# Altium schematic symbol library USBConnectors.SCHLIB: 22 symbols
Pins are listed as number, name and electrical type; pins without a type are passive.

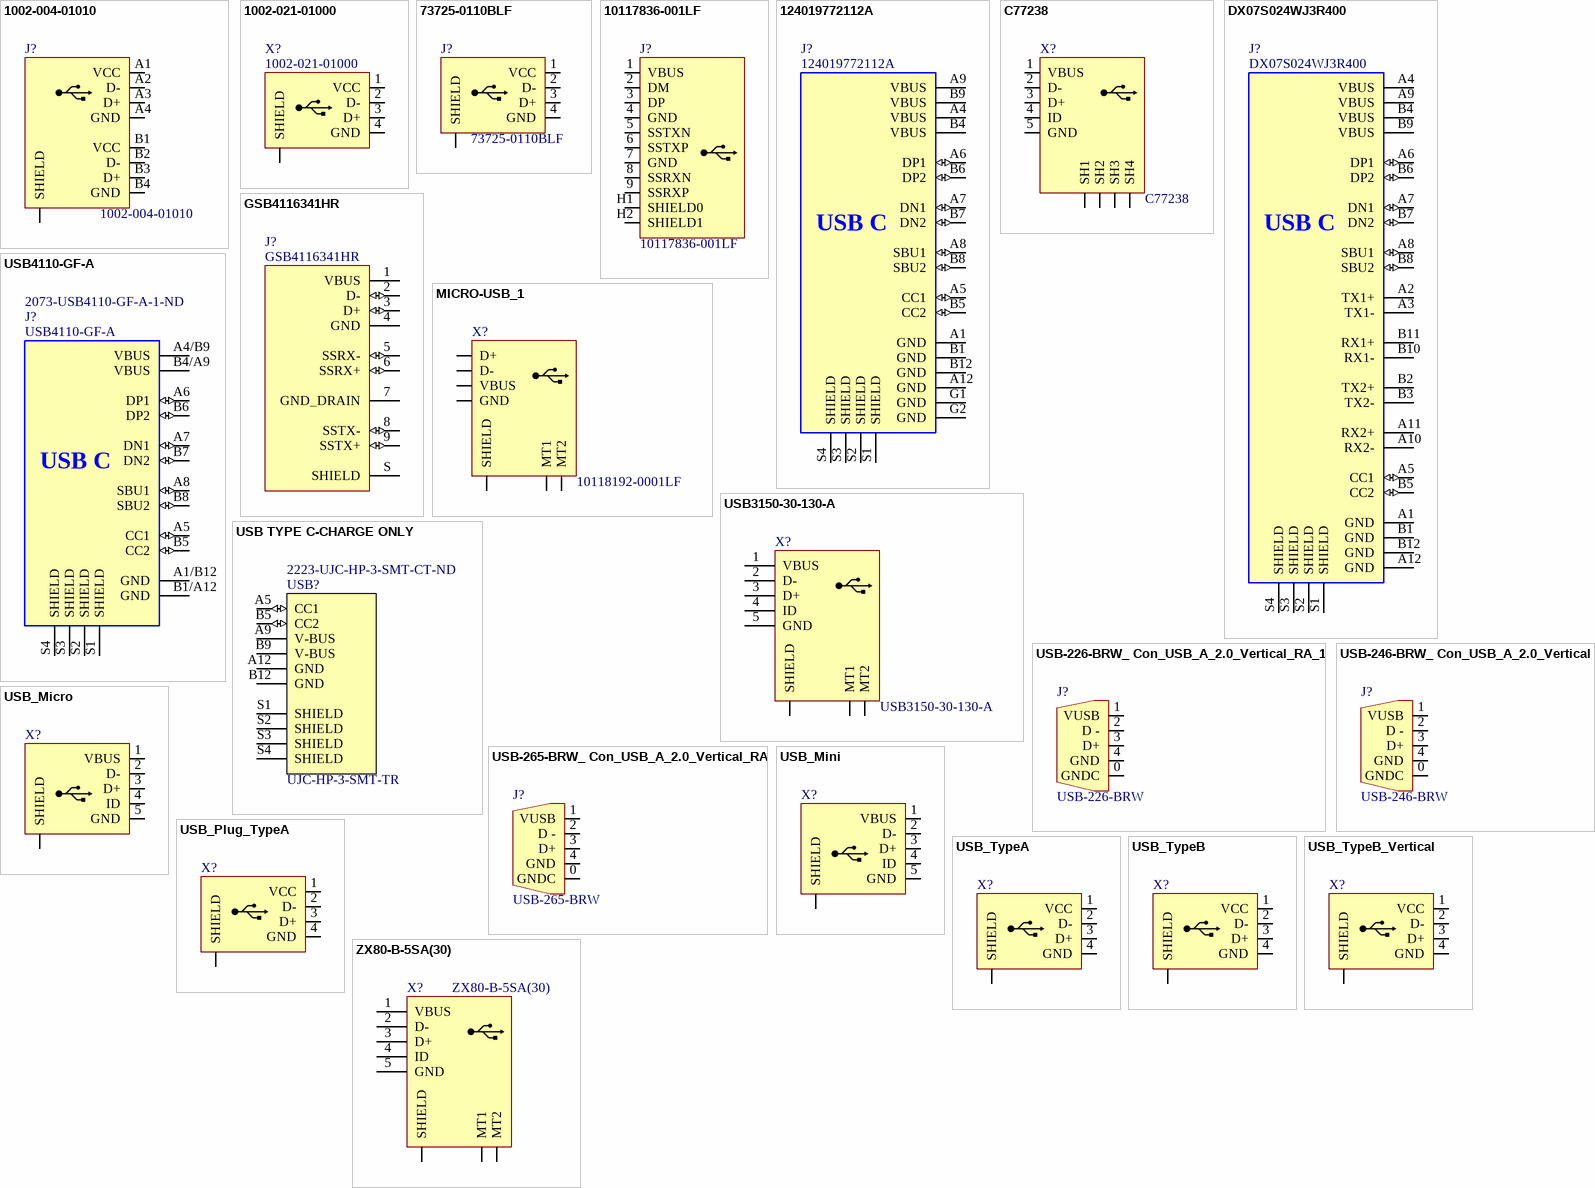
[diagram p0: symbols 1002-004-01010 to ZX80-B-5SA(30)]

## 1002-004-01010
designator J?
CONN USB A TYPE R/A DUAL T/H; Manufacturer: CNC Tech; Connector Type: USB - A, Stacked; Number of Contacts: 8; Gender: Receptacle; Specifications: USB 2.0; Number of Ports: 2; Current Rating: 1.5A; Voltage - Rated: 30V; Mating Cycles: 1500; Material Flammability Rating: UL94 V-0; Supplier 1: Digi-Key; Manufacturer Part Number: 1002-004-01010; RoHS: RoHS Compliant; Category: Connectors, Interconnects; Stock 1: 43520; Pricing 1: 1=1.1, 10=0.969, 25=0.912, 50=0.874, 100=0.836, 250=0.76, 500=0.684, 1000=0.608, 2500=0.551 (USD); Packaging: Tray; Part Status: Active; Mounting Type: Through Hole, Right Angle; Mounting Feature: Horizontal; Termination: Solder; Features: Board Lock; Ingress Protection: -; Operating Temperature: -55°C ~ 85°C; Shielding: -; Contact Finish: Gold; Shell/Shielding Material: Brass, Steel; Insulation Color: -; ComponentLink1URL: http://cnctech.us/pdfs/1002-004-01010.pdf; ComponentLink1Description: http://cnctech.us/pdfs/1002-004-01010.pdf; Value: 1002-004-01010; Supplier Part Number 1: 1175-1018-ND
footprint 1002-004-01010
pins: A1 VCC, A2 D-, A3 D+, A4 GND, B1 VCC, B2 D-, B3 D+, B4 GND, SHIELD

## 1002-021-01000
designator X?
USB 2.0 A/FEMALE DIP 180 DEG; Manufacturer: CNC Tech; Connector Type: USB - A; Number of Contacts: 4; Gender: Receptacle; Specifications: USB 2.0; Number of Ports: 1; Current Rating: 1.5A; Voltage - Rated: 30V; Mating Cycles: 1500; Material Flammability Rating: UL94 V-0; Supplier 1: Digi-Key; Manufacturer Part Number: 1002-021-01000; RoHS: RoHS Compliant; Category: Connectors, Interconnects; Stock 1: 16254; Pricing 1: 1=0.84, 10=0.74, 25=0.696, 50=0.667, 100=0.638, 250=0.58, 500=0.522, 1000=0.464, 2500=0.4205 (USD); Packaging: Tray; Part Status: Active; Mounting Type: Through Hole; Mounting Feature: Vertical; Termination: Solder; Features: Board Lock; Ingress Protection: -; Operating Temperature: -55°C ~ 85°C; Shielding: -; Contact Finish: -; Shell/Shielding Material: Brass; Insulation Color: Black; ComponentLink1URL: http://www.cnctech.us/pdfs/1002-021-01000.pdf; ComponentLink1Description: http://www.cnctech.us/pdfs/1002-021-01000.pdf; Value: 1002-021-01000; Supplier Part Number 1: 1175-1265-ND
footprint USB_TypeA-Vertical
pins: 1 VCC, 2 D-, 3 D+, 4 GND, SHIELD

## 73725-0110BLF
designator J?
CONN RCPT USB TYPE A FLAG PCB; Manufacturer: Amphenol FCI; Connector Type: USB - A; Number of Contacts: 4; Gender: Receptacle; Specifications: USB 2.0; Number of Ports: 1; Current Rating: 2.5A; Mating Cycles: 1500; Shielding: Shielded; Material Flammability Rating: UL94 V-0; Supplier 1: Digi-Key; Manufacturer Part Number: 73725-0110BLF; RoHS: RoHS Compliant; Category: Connectors, Interconnects; Stock 1: 32534; Pricing 1: 1=0.84, 10=0.742, 25=0.6984, 50=0.6694, 100=0.6402, 250=0.582, 500=0.5238, 1000=0.4656, 2500=0.42195 (USD); Packaging: Tube; Part Status: Active; Mounting Type: Through Hole, Right Angle; Mounting Feature: Vertical; Termination: Solder; Features: Board Lock, Sensor Contact; Ingress Protection: -; Operating Temperature: -55°C ~ 85°C; Voltage - Rated: -; Contact Finish: Gold, GXT™; Shell/Shielding Material: Copper Alloy; Insulation Color: White; ComponentLink1URL: http://portal.fciconnect.com/Comergent//fci/drawing/73725.pdf; ComponentLink1Description: http://portal.fciconnect.com/Comergent//fci/drawing/73725.pdf; Value: 73725-0110BLF; Supplier Part Number 1: 609-1041-ND
footprint 73725-0110BLF
pins: 1 VCC, 2 D-, 3 D+, 4 GND, SHIELD

## 10117836-001LF
designator J?
USB 3.0 Receptacle , FCI, SMT, Type A, Right Angle; Source1Partnumber: 609-4663-ND; Populated: Yes; Source1: Digikey; Source1Price: 1.15; Source1Qty: 1; ComponentLink1Description: Manufacturer Web; ComponentLink2Description: Datasheet Web; ComponentLink3Description: Digikey Web; LatestRevisionDate: 21-Dec-2015; PackageReference: TH; ROHS: Yes; Value: 10117836-001LF; Manuf1: FCI; Manuf1Partnumber: 10117836-001LF
footprint USB_3_0_A - Vertical
pins: 1 VBUS, 2 DM, 3 DP, 4 GND, 5 SSTXN, 6 SSTXP, 7 GND, 8 SSRXN, 9 SSRXP, H1 SHIELD0, H2 SHIELD1

## 124019772112A
designator J?
USB2.0, Type C, Top mount, CH 1.50mm, Dual Row SMT, IPX8 / Tap/Rl; Manufacturer: Amphenol; Supplier: Digikey; Supplier Part Number: 664-124019772112ACT-ND; Manufacturer Part Number: 124019772112A; RoHS: No; Category: Connectors; Stock: 7974; Pricing: 1=1,9, 10=1,549, 25=1,4276, 50=1,3424, 100=1,2623, 250=1,1638 (USD)
footprint AMPHENOL_124019772112A
pins: A1 GND (power), A4 VBUS (power), A5 CC1 (io), A6 DP1 (io), A7 DN1 (io), A8 SBU1 (io), A9 VBUS (power), A12 GND (power), B1 GND (power), B4 VBUS (power), B5 CC2 (io), B6 DP2 (io), B7 DN2 (io), B8 SBU2 (io), B9 VBUS (power), B12 GND (power), G1 GND (power), G2 GND (power), S1 SHIELD (power), S2 SHIELD (power), S3 SHIELD (power), S4 SHIELD (power)
text: USB C

## C77238
designator X?
USB - MICRO B FEMALE USB 2 5 SMD ROHS; Manuf1: Jing Extension of the Electronic Co.; Populated: Yes; Value: C77238; ROHS: Yes; Manuf1Partnumber: C77238; Supplier 1: LCSC; Supplier Part Number 1: C77238; ClassName: *; Code_JEDEC: *; HelpURL: *
footprint MICRO-USB_MICRO-USB-17
pins: 1 VBUS, 2 D-, 3 D+, 4 ID, 5 GND, SH1, SH2, SH3, SH4

## DX07S024WJ3R400
designator J?
USB Connector, 24 Contact(s), Female, Straight, Surface Mount Terminal, Locking, Receptacle; Manufacturer: JAE Electronics; Contact Resistance: 40mΩ; Current Rating: 5A; Dielectric Material: Polyethylene; Insulation Resistance: 100MΩ; Number of Ports: 1; Row Spacing: 3.5mm; Supplier: DigiKey; Supplier Part Number: 670-2950-1-ND; Manufacturer Part Number: DX07S024WJ3R400; RoHS: Compliant; Category: Card Edge Connectors; Stock: 15409; Pricing: 1=2,26, 10=1,917, 25=1,7964, 50=1,7106, 100=1,6289 (USD); Contact Gender: Female; Lifecycle Status: Production; Max Operating Temperature: 85°C; Min Operating Temperature: -30°C; Pins: 24; Number of Rows: 2; REACH SVHC: Yes; Shell Finish: Nickel; Shell Material: Stainless Steel; Terminal Pitch: 500µm; ComponentLink1URL: https://datasheet.octopart.com:443/DX07S024WJ3R400-JAE-Electronics-datasheet-180494801.pdf?src-supplier=IHS; ComponentLink1Description: https://datasheet.octopart.com:443/DX07S024WJ3R400-JAE-Electronics-datasheet-180494801.pdf?src-supplier=IHS; ComponentLink2URL: https://datasheet.octopart.com:443/DX07S024WJ3R400-JAE-Electronics-datasheet-188511448.pdf?src-supplier=Electro+Sonic; ComponentLink2Description: https://datasheet.octopart.com:443/DX07S024WJ3R400-JAE-Electronics-datasheet-188511448.pdf?src-supplier=Electro+Sonic
footprint JAE_DX07S024WJ3R400
pins: A1 GND (power), A2 TX1+, A3 TX1-, A4 VBUS (power), A5 CC1 (io), A6 DP1 (io), A7 DN1 (io), A8 SBU1 (io), A9 VBUS (power), A10 RX2-, A11 RX2+, A12 GND (power), B1 GND (power), B2 TX2+, B3 TX2-, B4 VBUS (power), B5 CC2 (io), B6 DP2 (io), B7 DN2 (io), B8 SBU2 (io), B9 VBUS (power), B10 RX1-, B11 RX1+, B12 GND (power), S1 SHIELD (power), S2 SHIELD (power), S3 SHIELD (power), S4 SHIELD (power)
text: USB C

## GSB4116341HR
designator J?
USB Connector, 9 Contact(s), Female, Right Angle, Solder Terminal, Locking, Receptacle; Manufacturer: Amphenol Communications Solutions; Contact Resistance: 50mΩ; Current Rating: 1.8A; Dielectric Material: Polyethylene; Insulation Resistance: 100MΩ; Number of Contacts: 9; Number of Ports: 1; Plating Thickness: 762mm; Row Spacing: 2.4mm; Supplier: DigiKey; Supplier Part Number: GSB4116341HR-ND; Manufacturer Part Number: GSB4116341HR; RoHS: Compliant; Category: Connectors; Stock: 5157; Pricing: 1=1,8, 10=1,528, 25=1,4324, 50=1,3638, 100=1,2987, 250=1,21732, 500=1,15918, 1900=1,055, 3800=1,00468 (USD); Connector Type: USB; Contact Gender: Female; Gender: Receptacle; Lifecycle Status: Production; Max Operating Temperature: 85°C; Min Operating Temperature: -40°C; Mounting Technology: Through Hole, Vertical; Pins: 9; Number of Rows: 2; Orientation: Right Angle; REACH SVHC: Yes; Schedule B: 8536695050, 8536695050|8536695050|8536695050|8536695050|8536695050; Shell Finish: Nickel; Shell Material: Stainless Steel; Terminal Pitch: 2mm; ComponentLink1URL: https://datasheet.octopart.com:443/GSB4116341HR-Amphenol-Communications-Solutions-datasheet-182249118.pdf?src-supplier=IHS; ComponentLink1Description: https://datasheet.octopart.com:443/GSB4116341HR-Amphenol-Communications-Solutions-datasheet-182249118.pdf?src-supplier=IHS; ComponentLink2URL: https://datasheet.octopart.com:443/GSB4116341HR-Amphenol-Communications-Solutions-datasheet-154833497.pdf?src-supplier=Master+Electronics; ComponentLink2Description: https://datasheet.octopart.com:443/GSB4116341HR-Amphenol-Communications-Solutions-datasheet-154833497.pdf?src-supplier=Master+Electronics
footprint AMPHENOL_GSB4116341HR
pins: 1 VBUS (power), 2 D- (io), 3 D+ (io), 4 GND (power), 5 SSRX- (io), 6 SSRX+ (io), 7 GND_DRAIN (power), 8 SSTX- (io), 9 SSTX+ (io), S SHIELD

## MICRO-USB_1
designator X?, comment 10118192-0001LF
USB - micro B USB 2.0 Receptáculo Conector 5pos; Populated: Yes; Value: 10118192-0001LF; ROHS: Yes; Manuf1: *; Manuf1Partnumber: 10118192-0001LF; Supplier 1: Digi-Key; Supplier 2: Mouser; Supplier Part Number 1: 609-4613-6-ND; Supplier Part Number 2: 649-10118192-0001LF; ClassName: *; Code_JEDEC: *; HelpURL: *
footprint USB-MICROB
footprint USB-MICROB - NO3D
pins: D+, D-, GND, MT1, MT2, SHIELD, VBUS

## USB3150-30-130-A
designator X?
USB Connector, Micro USB Type B, USB 2.0, Plug, 5 Positions, Through Hole Mount, Vertical; Manuf1: GLOBAL CONNECTOR TECHNOLOGY; Populated: Yes; Value: USB3150-30-130-A; ROHS: Yes; Manuf1Partnumber: USB3150-30-130-A; Supplier 1: Digi-Key; Supplier 2: Mouser; Supplier Part Number 1: 609-4613-6-ND; Supplier Part Number 2: 649-10118192-0001LF; ClassName: *; Code_JEDEC: *; HelpURL: *
footprint USB3150
pins: 1 VBUS, 2 D-, 3 D+, 4 ID, 5 GND, MT1, MT2, S SHIELD

## USB4110-GF-A
designator J?  Supplier Part Number 1: 2073-USB4110-GF-A-1-ND
Conn USB Type C RCP 16 POS 0.3mm/0.5mm Solder ST SMD 16 Terminal 1 Port T/R; Manufacturer: Global Connector Technology; Supplier 1: Digi-Key; Manufacturer Part Number: USB4110-GF-A; RoHS: No; Category: USB Connectors; Stock 1: 28472; Pricing 1: 1=1,350000, 10=1,143000, 25=1,096400, 50=1,073200, 100=1,026600, 250=0,933240, 500=0,839920 (USD); ComponentLink1URL: https://gct.co/files/drawings/usb4110.pdf?src-supplier=Digi-Key; ComponentLink1Description: https://gct.co/files/drawings/usb4110.pdf?src-supplier=Digi-Key
footprint GCT_USB4110-GF-A
pins: A1/B12 GND (power), A4/B9 VBUS (power), A5 CC1 (io), A6 DP1 (io), A7 DN1 (io), A8 SBU1 (io), B1/A12 GND (power), B4/A9 VBUS (power), B5 CC2 (io), B6 DP2 (io), B7 DN2 (io), B8 SBU2 (io), S1 SHIELD (power), S2 SHIELD (power), S3 SHIELD (power), S4 SHIELD (power)
text: USB C

## USB TYPE C-CHARGE ONLY
designator USB?, comment UJC-HP-3-SMT-TR  Supplier Part Number 1: 2223-UJC-HP-3-SMT-CT-ND
Power-Only USB Type C Connector, Surface Mount, Right Angle, 20 Vdc, 3 A, 60 W, 6 Pins; Manufacturer: CUI Devices; Supplier 1: Digi-Key; Manufacturer Part Number: UJC-HP-3-SMT-TR; RoHS: Yes; Category: USB Connectors; Stock 1: 32496; Pricing 1: 1=0,99000, 10=0,83600, 25=0,80200, 50=0,78480, 100=0,75080, 250=0,68248, 500=0,61424 (USD)
footprint CUI_UJC-HP-3-SMT-TR
pins: A5 CC1 (io), A9 V-BUS (power), A12 GND (power), B5 CC2 (io), B9 V-BUS (power), B12 GND (power), S1 SHIELD, S2 SHIELD, S3 SHIELD, S4 SHIELD

## USB-226-BRW_ Con_USB_A_2.0_Vertical_RA_1
designator J?, comment USB-226-BRW
CONN RCPT USB 2.0 Type-A 4POS TH R/A; Manufacturer: XUNPU; Manufacturer Part Number: USB-226-BRW; ComponentLink1Description: LCSC; ComponentLink1URL: https://www.lcsc.com/product-detail/C720524.html?spm=wm.fly.bg.1.xh___wm.sxq.ssx.dcs.1&lcsc_vid=QlhdUlBWRlMKVAdeEgBXVlRfEVUMAgACFlVfBFFfFAcxVlNeQVZaVFFQR1leVjsOAxUeFF5JWBYZEEoKFBINSQcJGk4eFQsCAgIaSgADAwAHC0slQlBaVVFUQk8GEwkK; Supplier 1: LCSC; Supplier Part Number 1: C720524
footprint USB-226-BRW_ Con_USB_A_2.0_Vertical_RA_1
pins: 0 GNDC, 1 VUSB, 2 D -, 3 D+, 4 GND

## USB-246-BRW_ Con_USB_A_2.0_Vertical
designator J?, comment USB-246-BRW
1.5A USB 2.0 1 Through Hole 4P Female -20℃~+70℃ Type-A Through Hole USB Connectors ROHS; Manufacturer: XUNPU; Manufacturer Part Number: USB-246-BRW; ComponentLink1Description: LCSC; ComponentLink1URL: https://lcsc.com/product-detail/USB-Connectors_XUNPU-USB-246-BRW_C720532.html?s_z=n_xunpu; Supplier 1: LCSC; Supplier Part Number 1: C720532
footprint CON_USB_A_4_VERTICAL_10MM
pins: 0 GNDC, 1 VUSB, 2 D -, 3 D+, 4 GND

## USB-265-BRW_ Con_USB_A_2.0_Vertical_RA
designator J?, comment USB-265-BRW
CONN RCPT USB 2.0 Type-A 4POS TH R/A; Manufacturer: XUNPU; Manufacturer Part Number: USB-265-BRW; ComponentLink1Description: LCSC; ComponentLink1URL: https://www.lcsc.com/product-detail/C720546.html?spm=wm.fly.bg.0.xh___wm.sxq.ssx.dcs.1&lcsc_vid=QlhdUlBWRlMKVAdeEgBXVlRfEVUMAgACFlVfBFFfFAcxVlNeQVZaVFFQR1leVjsOAxUeFF5JWBYZEEoKFBINSQcJGk4eFQsCAgIaSgADAwAHC0slQlBaVVFUQk8GEwkK; Supplier 1: LCSC; Supplier Part Number 1: C720546
footprint USB-265-BRW_ Con_USB_A_2.0_Vertical_RA
pins: 0 GNDC, 1 VUSB, 2 D -, 3 D+, 4 GND

## USB_Micro
designator X?
USB; Populated: Yes; ROHS: Yes
footprint USB_Micro-AB
footprint USB_Micro-B
pins: 1 VBUS, 2 D-, 3 D+, 4 ID, 5 GND, SHIELD

## USB_Mini
designator X?
USB; Populated: Yes; ROHS: Yes
footprint USB_MINI-B
pins: 1 VBUS, 2 D-, 3 D+, 4 ID, 5 GND, SHIELD

## USB_Plug_TypeA
designator X?, comment 1001-011-01101  (value not drawn)
Right Angle Type A USB Connector SMT Plug, 30 V, 1A; Manuf1: CNC Tech; Populated: Yes; Manuf1Partnumber: 1001-011-01101; PackageReference: USB-A; ROHS: Yes; Value: 1001-011-01101; Supplier 1: Digi-Key; Supplier Part Number 1: 1175-1008-ND
footprint USB_Plug_TypeA
footprint USB_Plug_Type-VER
pins: 1 VCC, 2 D-, 3 D+, 4 GND, SHIELD

## USB_TypeA
designator X?, comment UE27AC54100  (value not drawn)
USB - A USB 2.0 Receptacle Connector 4 Position Through Hole, Right Angle, Horizontal; Manuf1: Amphenol; Populated: Yes; Manuf1Partnumber: UE27AC54100; ROHS: Yes; Value: UE27AC54100; Supplier 1: Digi-Key; Supplier 2: Mouser; Supplier 3: Allied; Supplier Part Number 1: UE27AC54100-ND; Supplier Part Number 2: 523-UE27-AC54-100; Supplier Part Number 3: 70323399
footprint USB_TypeA
footprint USB_TYPEA SMD
footprint USB_TypeA-Vertical
pins: 1 VCC, 2 D-, 3 D+, 4 GND, SHIELD

## USB_TypeB
designator X?, comment USB-B1HSW6  (value not drawn)
USB - B Receptacle Connector 4 Position Through Hole, Right Angle, Horizontal; Populated: Yes; Manuf1Partnumber: USB-B1HSW6; PackageReference: USB-B; ROHS: Yes; Value: USB-B1HSW6; Supplier 1: Digi-Key; Supplier Part Number 1: ED2982-ND
footprint USB_TypeB
pins: 1 VCC, 2 D-, 3 D+, 4 GND, SHIELD

## USB_TypeB_Vertical
designator X?, comment USB-B1HSW6  (value not drawn)
USB - B Receptacle Connector 4 Position Through Hole, Right Angle, Horizontal; Populated: Yes; Manuf1Partnumber: USB-B1HSW6; PackageReference: USB-B; ROHS: Yes; Value: USB-B1HSW6; Supplier 1: Digi-Key; Supplier Part Number 1: 151-1083-ND
footprint USB_TYPE_B_VERTICAL_RECEP
pins: 1 VCC, 2 D-, 3 D+, 4 GND, SH SHIELD

## ZX80-B-5SA(30)
designator X?
HIROSE(HRS)         ZX80-B-5SA(30)             USB Connector, Cradle, Micro USB Type B, USB 2.0, Plug, 5 Ways, Surface Mount, Through Hole Mount; Number of Contacts: 5; Gender: Male; Current Rating: 1A; Contact Resistance: 30mR; USB Standard: USB 2.0; Supplier 1: Digi-Key; Supplier Part Number 1: H125243-ND; Manufacturer: Hirose; Manufacturer Part Number: ZX80-B-5SA(30); Stock 1: 4982; Pricing 1: 1=1.36, 10=1.199, 25=1.128, 50=1.081, 100=1.034, 250=0.94, 500=0.846, 1000=0.752 (USD); Mount: Surface Mount,Vertical; Contact Material: Copper Alloy; Contact Plating: Gold; Colour: Black; Packaging: Bulk; Connector Type: USB; Orientation: Vertical; REACH SVHC: Unknown; Flammability Rating: UL94 V-0; Lead Free: Lead Free; ComponentLink1URL: https://www.hirose.com/product/en/download_file/key_name/ZX/category/Catalog/doc_file_id/31704/?file_category_id=4&item_id=13&is_series=1; ComponentLink1Description: https://www.hirose.com/product/en/download_file/key_name/ZX/category/Catalog/doc_file_id/31704/?file_category_id=4&item_id=13&is_series=1; ComponentLink2URL: http://www.farnell.com/datasheets/2060515.pdf; ComponentLink2Description: http://www.farnell.com/datasheets/2060515.pdf; Value: ZX80-B-5SA(30)
footprint ZX80-B-5SA(30)
pins: 1 VBUS, 2 D-, 3 D+, 4 ID, 5 GND, MT1, MT2, S SHIELD